# Altium footprint library EBC18DRAS.PcbLib: 1 footprints
Each footprint in its own frame and in the unit in brackets; x right, y up, seen from the top. Pads: shape width x height; smd on the part's side, far side on the other; paste and mask are expansions set on the pad; w line width, h text height; cw(c..) or ccw(c..) is an arc to the next point about the centre after c.
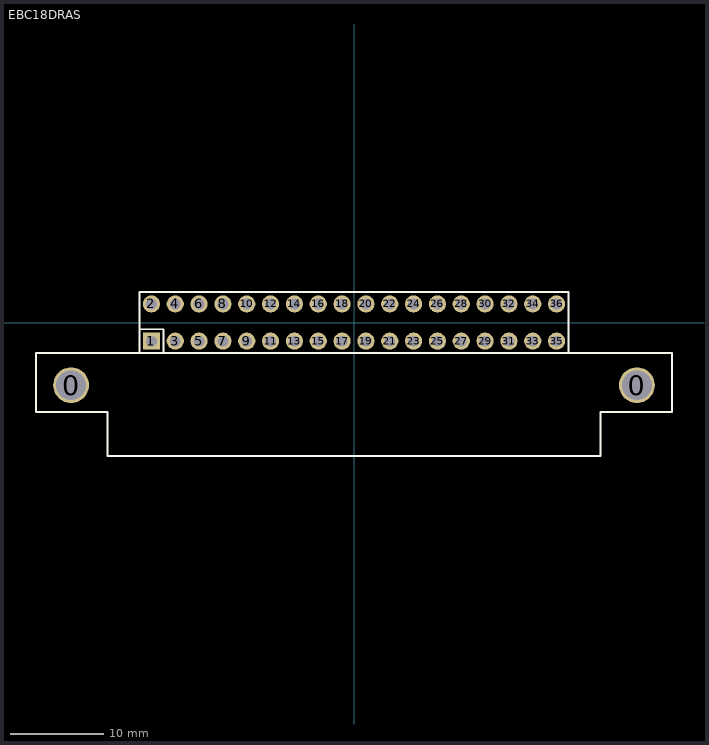
[diagram p0: the footprint, top view; thin cyan lines are the x and y axes]

## EBC18DRAS [mil] "Samtec ESW-100 Socket Strip"
pads (38):
  round 150 hole 125: 0(-1187,-263) 0(1187,-263)
  rect 72x72 hole 45: 1(-850,-78)
  round 72 hole 45: 2(-850,78) 3(-750,-78) 4(-750,78) 5(-650,-78) 6(-650,78) 7(-550,-78) 8(-550,78) 9(-450,-78) 10(-450,78) 11(-350,-78) 12(-350,78) 13(-250,-78) 14(-250,78) 15(-150,-78) 16(-150,78) 17(-50,-78) 18(-50,78) 19(50,-78) 20(50,78) 21(150,-78) 22(150,78) 23(250,-78) 24(250,78) 25(350,-78) 26(350,78) 27(450,-78) 28(450,78) 29(550,-78) 30(550,78) 31(650,-78) 32(650,78) 33(750,-78) 34(750,78) 35(850,-78) 36(850,78)
TopOverlay:
  lines w8: -900.25,-125 -900.25,125 ; -900.25,128.21 -724.82,128.21 900.54,128.21 ; -899.61,-28.23 -800,-28.23 -800,-128.23 ; 899.99,-128.23 -900.25,-128.23 -1335,-128.23 -1335,-375 -1035,-375 -1035,-560 0,-560 1035,-560 1035,-375 1335,-375 1335,-128.23 900.25,-128.23 ; 900,-125 900,125
Mechanical4:
  text ".341" at -850,-78 h1